# Altium footprint library GNSS_Receiver_Library.PcbLib: 4 footprints
Each footprint in its own frame and in the unit in brackets; x right, y up, seen from the top. Pads: shape width x height; smd on the part's side, far side on the other; paste and mask are expansions set on the pad; w line width, h text height; cw(c..) or ccw(c..) is an arc to the next point about the centre after c.
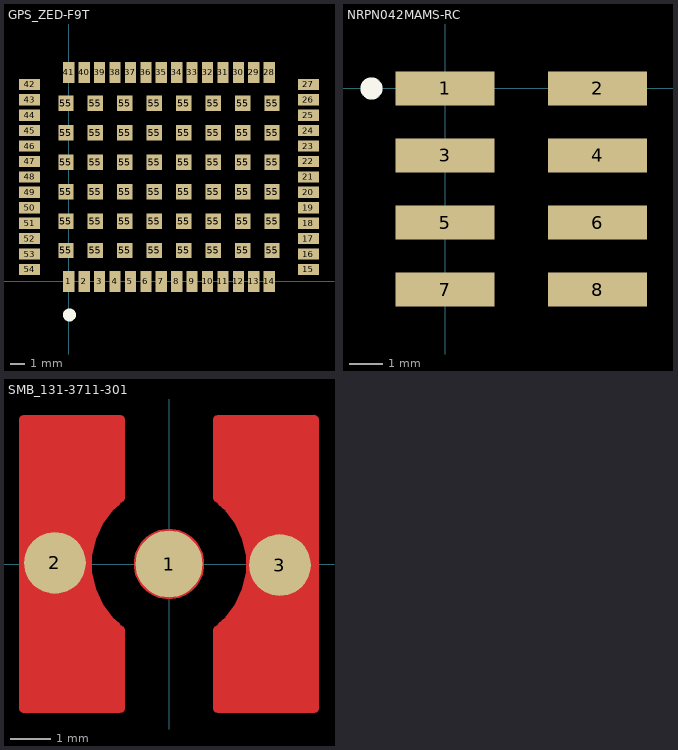
[diagram p0: the footprints below, top view; thin cyan lines are the x and y axes]

## GPS_ZED-F9T [mm]
pads (102):
  rect 0.8x1.5 smd: 1(0,0) 2(1.1,0) 3(2.2,0) 4(3.3,0) 5(4.4,0) 6(5.5,0) 7(6.6,0) 8(7.7,0) 9(8.8,0) 10(9.9,0) 11(11,0) 12(12.1,0) 13(13.2,0) 14(14.3,0) 28(14.3,14.9) 29(13.2,14.9) 30(12.1,14.9) 31(11,14.9) 32(9.9,14.9) 33(8.8,14.9) 34(7.7,14.9) 35(6.6,14.9) 36(5.5,14.9) 37(4.4,14.9) 38(3.3,14.9) 39(2.2,14.9) 40(1.1,14.9) 41(0,14.9)
  rect 1.5x0.8 smd: 15(17.1,0.85) 16(17.1,1.95) 17(17.1,3.05) 18(17.1,4.15) 19(17.1,5.25) 20(17.1,6.35) 21(17.1,7.45) 22(17.1,8.55) 23(17.1,9.65) 24(17.1,10.75) 25(17.1,11.85) 26(17.1,12.95) 27(17.1,14.05) 42(-2.8,14.05) 43(-2.8,12.95) 44(-2.8,11.85) 45(-2.8,10.75) 46(-2.8,9.65) 47(-2.8,8.55) 48(-2.8,7.45) 49(-2.8,6.35) 50(-2.8,5.25) 51(-2.8,4.15) 52(-2.8,3.05) 53(-2.8,1.95) 54(-2.8,0.85)
  rect 1.1x1.1 smd: 55(-0.2,2.2) 55(-0.2,4.3) 55(-0.2,6.4) 55(-0.2,8.5) 55(-0.2,10.6) 55(-0.2,12.7) 55(1.9,2.2) 55(1.9,4.3) 55(1.9,6.4) 55(1.9,8.5) 55(1.9,10.6) 55(1.9,12.7) 55(4,2.2) 55(4,4.3) 55(4,6.4) 55(4,8.5) 55(4,10.6) 55(4,12.7) 55(6.1,2.2) 55(6.1,4.3) 55(6.1,6.4) 55(6.1,8.5) 55(6.1,10.6) 55(6.1,12.7) 55(8.2,2.2) 55(8.2,4.3) 55(8.2,6.4) 55(8.2,8.5) 55(8.2,10.6) 55(8.2,12.7) 55(10.3,2.2) 55(10.3,4.3) 55(10.3,6.4) 55(10.3,8.5) 55(10.3,10.6) 55(10.3,12.7) 55(12.4,2.2) 55(12.4,4.3) 55(12.4,6.4) 55(12.4,8.5) 55(12.4,10.6) 55(12.4,12.7) 55(14.5,2.2) 55(14.5,4.3) 55(14.5,6.4) 55(14.5,8.5) 55(14.5,10.6) 55(14.5,12.7)
Top Overlay:
  circle w0.762: c0.05,-2.4 r0.076
3D body "ZED_Form_Factor_with_Pin1Mark.STEP": height 2.49, standoff 0.01, extent -3.875,-1.1 18.125,15.9

## NRPN042MAMS-RC [mm]
pads (8):
  rect 2.95x1.02 smd: 1(0,0) 2(4.55,0) 3(0,-2) 4(4.55,-2) 5(0,-4) 6(4.55,-4) 7(0,-6) 8(4.55,-6)
Top Overlay:
  circle w0.508: c-2.2,0 r0.076
3D body "_ _ _N042MAMS-RC.STEP": height 5.81, standoff 0.01, extent -1.016,-7.048 5.484,0.952

## PCBComponent_1 [mm]

## SMB_131-3711-301 [mil]
pads (3):
  round 65 smd mask+0: 1(0,0)
  round 60 smd mask+0: 2(-111,1) 3(108,-1)
Top Layer:
  region: -146.01,-140 -146.01,140 -146.01,141 -145.25,142.84 -143.84,144.25 -142,145.01 -141,145.01 -48,145.01 -47,145.01 -45.16,144.25 -43.75,142.84 -42.98,141 -42.98,140 -42.98,65 -42.98,64.13 -43.56,62.5 -44.66,61.16 -46.14,60.26 -46.98,60.09 -48.52,57.82 -54.53,52.2 -64.53,39.16 -71.48,24.26 -75.04,8.22 -75.04,-8.22 -71.48,-24.26 -64.53,-39.16 -54.53,-52.2 -48.52,-57.82 -46.98,-60.09 -46.14,-60.26 -44.66,-61.16 -43.56,-62.5 -42.98,-64.13 -42.98,-65 -42.98,-140 -42.98,-141 -43.75,-142.84 -45.16,-144.25 -47,-145.01 -48,-145.01 -140,-145.01 -140.5,-144.99 -141.56,-145.1 -143.58,-144.43 -145.15,-143.01 -146.01,-141.06
  region: 146.01,140 146.01,-140 146.01,-141 145.25,-142.84 143.84,-144.25 142,-145.01 141,-145.01 48,-145.01 47,-145.01 45.16,-144.25 43.75,-142.84 42.98,-141 42.98,-140 42.98,-65 42.98,-64.13 43.56,-62.5 44.66,-61.16 46.14,-60.26 46.98,-60.09 48.52,-57.82 54.53,-52.2 64.53,-39.16 71.48,-24.26 75.04,-8.22 75.04,8.22 71.48,24.26 64.53,39.16 54.53,52.2 48.52,57.82 46.98,60.09 46.14,60.26 44.66,61.16 43.56,62.5 42.98,64.13 42.98,65 42.98,140 42.98,141 43.75,142.84 45.16,144.25 47,145.01 48,145.01 140,145.01 140.5,144.99 141.56,145.1 143.58,144.43 145.15,143.01 146.01,141.06
  region: 0,-34 -3.35,-34 -9.92,-32.69 -16.11,-30.13 -21.67,-26.41 -26.41,-21.67 -30.13,-16.11 -32.69,-9.92 -34,-3.35 -34,0 -34,3.35 -32.69,9.92 -30.13,16.11 -26.41,21.67 -21.67,26.41 -16.11,30.13 -9.92,32.69 -3.35,34 0,34 3.35,34 9.92,32.69 16.11,30.13 21.67,26.41 26.41,21.67 30.13,16.11 32.69,9.92 34,3.35 34,0 34,-3.35 32.69,-9.92 30.13,-16.11 26.41,-21.67 21.67,-26.41 16.11,-30.13 9.92,-32.69 3.35,-34
Top Paste:
  region: -146.01,-140 -146.01,140 -146.01,141 -145.25,142.84 -143.84,144.25 -142,145.01 -141,145.01 -48,145.01 -47,145.01 -45.16,144.25 -43.75,142.84 -42.98,141 -42.98,140 -42.98,65 -42.98,64.13 -43.56,62.5 -44.66,61.16 -46.14,60.26 -46.98,60.09 -48.52,57.82 -54.53,52.2 -64.53,39.16 -71.48,24.26 -75.04,8.22 -75.04,-8.22 -71.48,-24.26 -64.53,-39.16 -54.53,-52.2 -48.52,-57.82 -46.98,-60.09 -46.14,-60.26 -44.66,-61.16 -43.56,-62.5 -42.98,-64.13 -42.98,-65 -42.98,-140 -42.98,-141 -43.75,-142.84 -45.16,-144.25 -47,-145.01 -48,-145.01 -140,-145.01 -140.5,-144.99 -141.56,-145.1 -143.58,-144.43 -145.15,-143.01 -146.01,-141.06
  region: 146.01,140 146.01,-140 146.01,-141 145.25,-142.84 143.84,-144.25 142,-145.01 141,-145.01 48,-145.01 47,-145.01 45.16,-144.25 43.75,-142.84 42.98,-141 42.98,-140 42.98,-65 42.98,-64.13 43.56,-62.5 44.66,-61.16 46.14,-60.26 46.98,-60.09 48.52,-57.82 54.53,-52.2 64.53,-39.16 71.48,-24.26 75.04,-8.22 75.04,8.22 71.48,24.26 64.53,39.16 54.53,52.2 48.52,57.82 46.98,60.09 46.14,60.26 44.66,61.16 43.56,62.5 42.98,64.13 42.98,65 42.98,140 42.98,141 43.75,142.84 45.16,144.25 47,145.01 48,145.01 140,145.01 140.5,144.99 141.56,145.1 143.58,144.43 145.15,143.01 146.01,141.06
3D body "SMB-JWHT1_clone.step": height 339.08, standoff 0.5, extent -126.97,-430.53 125,128.53